# Altium footprint library WL-SFTD.PcbLib: 5 footprints
Each footprint in its own frame and in the unit in brackets; x right, y up, seen from the top. Pads: shape width x height; smd on the part's side, far side on the other; paste and mask are expansions set on the pad; w line width, h text height; cw(c..) or ccw(c..) is an arc to the next point about the centre after c.
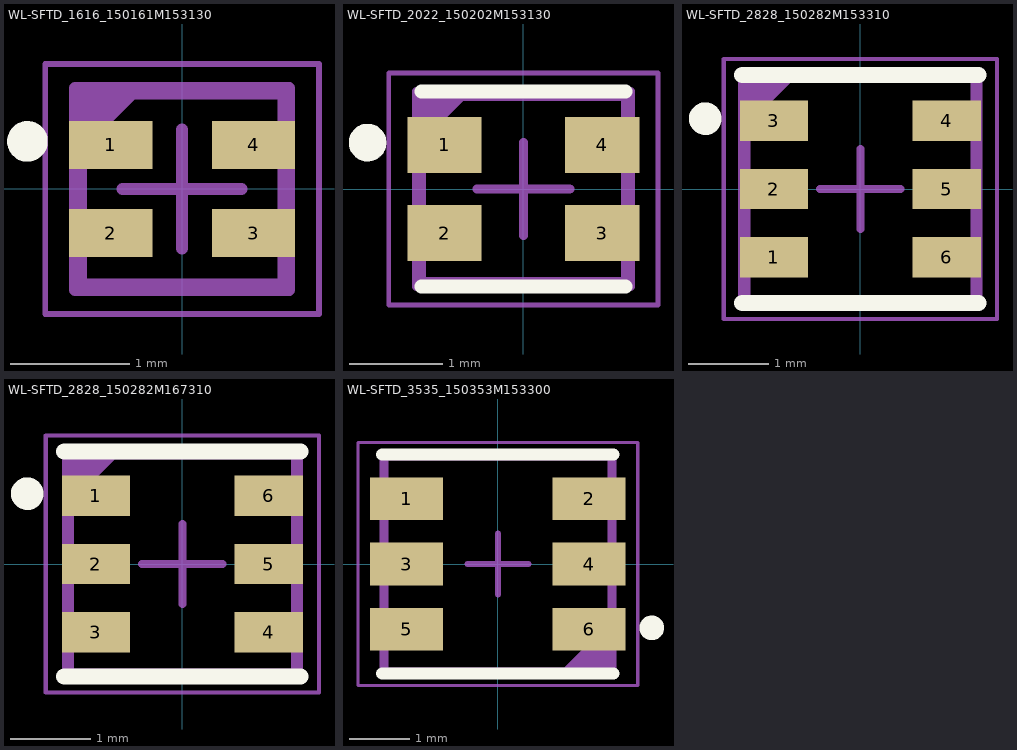
[diagram p0: the footprints below, top view; thin cyan lines are the x and y axes]

## WL-SFTD_1616_150161M153130 [mm] "SMT Full-color Top LED Diffused, body 1.7x1.6mm"
height 1.6
pads (4):
  rect 0.7x0.4 smd: 1(-0.6,0.37) 2(-0.6,-0.37) 3(0.6,-0.37) 4(0.6,0.37)
Top Overlay:
  circle w0.2: c-1.3,0.4 r0.071
Top Assembly:
  region: -0.9,0.85 -0.4,0.85 -0.9,0.35
  lines w0.1: -0.9,-0.85 0.9,-0.85 0.9,0.85 -0.9,0.85 -0.9,-0.85
Top Designator:
  text ".Designator" at -3.647,-0.357 h1
Top 3D Body:
  region: -0.85,0.8 -0.35,0.8 -0.85,0.3
  lines w0.1: -0.85,-0.8 0.85,-0.8 0.85,0.8 -0.85,0.8 -0.85,-0.8
Top Courtyard:
  lines w0.05: -1.15,-1.05 -1.15,1.05 1.15,1.05 1.15,-1.05 -1.15,-1.05
Top Component Center:
  lines w0.1: -0.5,0 0.5,0 ; 0,-0.5 0,0.5
3D body "150161M153130.stp": height 1.6, standoff 0, extent -0.85,-0.8 0.85,0.8

## WL-SFTD_2022_150202M153130 [mm] "SMT Full-color Top LED Diffused, body 2.2x2mm"
height 1.9
pads (4):
  rect 0.8x0.6 smd: 1(-0.85,0.475) 2(-0.85,-0.475) 3(0.85,-0.475) 4(0.85,0.475)
Top Overlay:
  circle w0.2: c-1.68,0.5 r0.103
  lines w0.15: -1.1,-1.05 1.1,-1.05 ; -1.1,1.05 1.1,1.05
Top Assembly:
  region: -1.15,1.05 -0.65,1.05 -1.15,0.55
  lines w0.1: -1.15,-1.05 -1.15,1.05 1.15,1.05 1.15,-1.05 -1.15,-1.05
Top Designator:
  text ".Designator" at -3.647,-0.357 h1
Top 3D Body:
  region: -1.1,1 -0.6,1 -1.1,0.5
  lines w0.1: -1.1,-1 -1.1,1 1.1,1 1.1,-1 -1.1,-1
Top Courtyard:
  lines w0.05: -1.45,-1.25 -1.45,1.25 1.45,1.25 1.45,-1.25 -1.45,-1.25
Top Component Center:
  lines w0.1: -0.5,0 0.5,0 ; 0,-0.5 0,0.5
3D body "150202M153100.stp": height 1.9, standoff 0, extent -1.1,-1 1.1,1

## WL-SFTD_2828_150282M153310 [mm] "SMT Full-color Top LED Diffused, body 2.84x2.74mm"
height 2.45
pads (6):
  rect 0.85x0.5 smd: 1(-1.075,-0.85) 2(-1.075,0) 3(-1.075,0.85) 4(1.075,0.85) 5(1.075,0) 6(1.075,-0.85)
Top Overlay:
  circle w0.2: c-1.93,0.875 r0.103
  lines w0.2: -1.47,-1.42 1.47,-1.42 ; -1.47,1.42 1.47,1.42
Top Assembly:
  region: -1.47,1.42 -0.87,1.42 -1.47,0.82
  lines w0.1: -1.47,-1.42 -1.47,1.42 1.47,1.42 1.47,-1.42 -1.47,-1.42
Top Designator:
  text ".Designator" at -3.647,-0.357 h1
Top 3D Body:
  region: -1.42,1.37 -0.82,1.37 -1.42,0.77
  lines w0.1: -1.42,-1.37 -1.42,1.37 1.42,1.37 1.42,-1.37 -1.42,-1.37
Top Courtyard:
  lines w0.05: -1.7,-1.62 -1.7,1.62 1.7,1.62 1.7,-1.62 -1.7,-1.62
Top Component Center:
  lines w0.1: -0.5,0 0.5,0 ; 0,-0.5 0,0.5
3D body "150282M153300.stp": height 2.45, standoff 0.01, extent -1.42,-1.37 1.42,1.37

## WL-SFTD_2828_150282M167310 [mm] "SMT Full-color Top LED Diffused, body 2.8x2.7mm"
height 3
pads (6):
  rect 0.85x0.5 smd: 1(-1.075,0.85) 2(-1.075,0) 3(-1.075,-0.85) 4(1.075,-0.85) 5(1.075,0) 6(1.075,0.85)
Top Overlay:
  circle w0.2: c-1.93,0.875 r0.103
  lines w0.2: -1.47,-1.4 1.47,-1.4 ; -1.47,1.4 1.47,1.4
Top Assembly:
  region: -1.45,1.4 -0.85,1.4 -1.45,0.8
  lines w0.1: -1.45,-1.4 -1.45,1.4 1.45,1.4 1.45,-1.4 -1.45,-1.4
Top Designator:
  text ".Designator" at -3.647,-0.357 h1
Top 3D Body:
  region: -1.4,1.35 -0.8,1.35 -1.4,0.75
  lines w0.1: -1.4,-1.35 -1.4,1.35 1.4,1.35 1.4,-1.35 -1.4,-1.35
Top Courtyard:
  lines w0.05: -1.7,-1.6 1.7,-1.6 1.7,1.6 -1.7,1.6 -1.7,-1.6
Top Component Center:
  lines w0.1: -0.5,0 0.5,0 ; 0,-0.5 0,0.5
3D body "150282M167310.stp": height 3, standoff 0, extent -1.4,-1.35 1.4,1.35

## WL-SFTD_3535_150353M153300 [mm] "SMD Full-color Top LED Diffused, body 3.7x3.5mm"
height 2.8
pads (6):
  rect 1.2x0.7 smd: 1(-1.5,1.075) 2(1.5,1.075) 3(-1.5,0) 4(1.5,0) 5(-1.5,-1.075) 6(1.5,-1.075)
Top Overlay:
  circle w0.2: c2.53,-1.05 r0.103
  lines w0.2: -1.9,-1.8 1.9,-1.8 ; -1.9,1.8 1.9,1.8
Top Assembly:
  region: 1.1,-1.8 1.9,-1.8 1.9,-1
  lines w0.1: -1.9,-1.8 -1.9,1.8 1.9,1.8 1.9,-1.8 -1.9,-1.8
Top Designator:
  text ".Designator" at -3.647,-0.357 h1
Top 3D Body:
  region: 1.05,-1.75 1.85,-1.75 1.85,-0.95
  lines w0.1: -1.85,-1.75 -1.85,1.75 1.85,1.75 1.85,-1.75 -1.85,-1.75
Top Courtyard:
  lines w0.05: -2.3,-2 -2.3,2 2.3,2 2.3,-2 -2.3,-2
Top Component Center:
  lines w0.1: -0.5,0 0.5,0 ; 0,-0.5 0,0.5
3D body "STEP-WL-SFTD-3535-rev1.stp": height 2.8, standoff 0, extent -1.85,-1.75 1.85,1.75